# Altium schematic symbol library U_TPS25942x.SchLib: 1 symbol
Pins are listed as number, name and electrical type; pins without a type are passive.

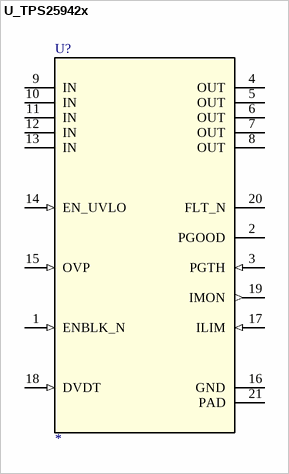
[diagram p0: symbol U_TPS25942x]

## U_TPS25942x
designator U?
pins: 1 ENBLK_N (in), 2 PGOOD (oc), 3 PGTH (in), 4 OUT (power), 5 OUT (power), 6 OUT (power), 7 OUT (power), 8 OUT (power), 9 IN (power), 10 IN (power), 11 IN (power), 12 IN (power), 13 IN (power), 14 EN_UVLO (in), 15 OVP (in), 16 GND (power), 17 ILIM (in), 18 DVDT (in), 19 IMON (out), 20 FLT_N (oc), 21 PAD (power)